# Altium integrated library 53261-7003.IntLib: 1 symbol
Pins are listed as number, name and electrical type; pins without a type are passive.

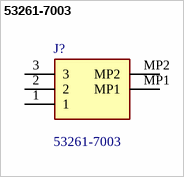
[diagram p0: symbol 53261-7003]

## 53261-7003
designator J?
1.25mm Pitch, PicoBlade PCB Header, Single Row, Right-Angle, Surface Mount, Gold (Au) Plating, Friction Lock, 03 Circuits, Tape and Reel; Manufacturer_Name: Molex; Geometry.Height: 3.4mm; Mouser Part Number: 538-53261-7003; Mouser Price/Stock: https://www.mouser.co.uk/ProductDetail/Molex/53261-7003?qs=0lSvoLzn4L%252ByXluk5e2iEQ%3D%3D; Manufacturer_Part_Number: 53261-7003; Datasheet Link: https://www.molex.com/pdm_docs/sd/532617010_sd.pdf
footprint 532617003
pins: 1, 2, 3, MP1, MP2